# EAGLE library part AT32UC3L016/32/64 (library atmega-atxmega)
AT32UC3L016/32/64 Low power AVR32 device
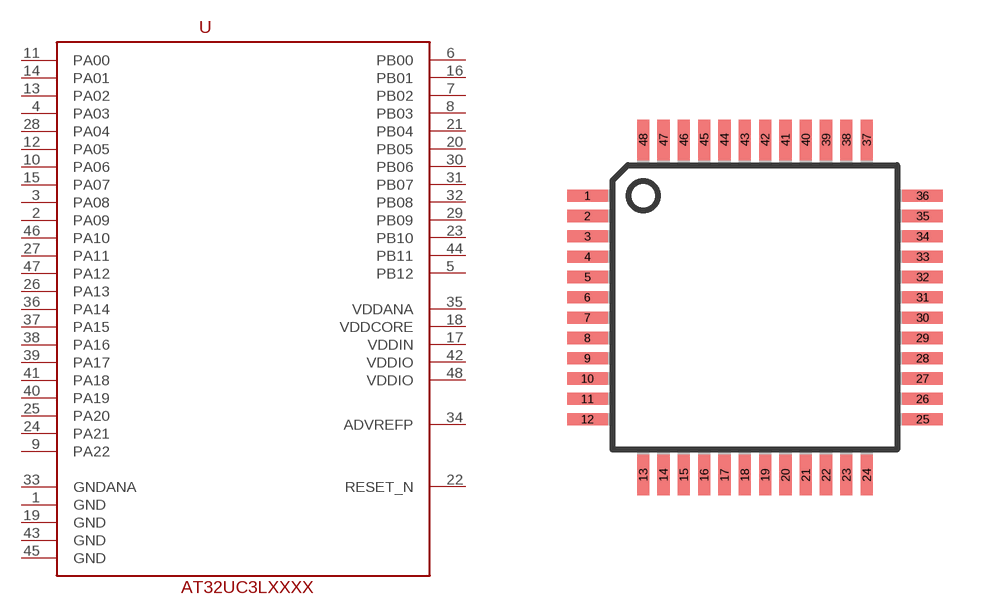
[diagram p94: symbol with the pads of TQFP48; footprint TQFP48]

Designator prefix -

## AT32UC3L016/32/64  [TQFP48]
1  GND
2  PA09
3  PA08
4  PA03
5  PB12
6  PB00
7  PB02
8  PB03
9  PA22
10  PA06
11  PA00
12  PA05
13  PA02
14  PA01
15  PA07
16  PB01
17  VDDIN
18  VDDCORE
19  GND
20  PB05
21  PB04
22  RESET_N
23  PB10
24  PA21
25  PA20
26  PA13
27  PA11
28  PA04
29  PB09
30  PB06
31  PB07
32  PB08
33  GNDANA
34  ADVREFP
35  VDDANA
36  PA14
37  PA15
38  PA16
39  PA17
40  PA19
41  PA18
42  VDDIO
43  GND
44  PB11
45  GND
46  PA10
47  PA12
48  VDDIO

## Footprint TQFP48 (pad centres in mm)
Thin Plasic Quad Flat Package
smd 1.016 x 0.305: 1 -4.191,2.794; 2 -4.191,2.286; 3 -4.191,1.778; 4 -4.191,1.27; 5 -4.191,0.762; 6 -4.191,0.254; 7 -4.191,-0.254; 8 -4.191,-0.762; 9 -4.191,-1.27; 10 -4.191,-1.778; 11 -4.191,-2.286; 12 -4.191,-2.794; 25 4.191,-2.794; 26 4.191,-2.286; 27 4.191,-1.778; 28 4.191,-1.27; 29 4.191,-0.762; 30 4.191,-0.254; 31 4.191,0.254; 32 4.191,0.762; 33 4.191,1.27; 34 4.191,1.778; 35 4.191,2.286; 36 4.191,2.794
smd 0.305 x 1.016: 13 -2.794,-4.191; 14 -2.286,-4.191; 15 -1.778,-4.191; 16 -1.27,-4.191; 17 -0.762,-4.191; 18 -0.254,-4.191; 19 0.254,-4.191; 20 0.762,-4.191; 21 1.27,-4.191; 22 1.778,-4.191; 23 2.286,-4.191; 24 2.794,-4.191; 37 2.794,4.191; 38 2.286,4.191; 39 1.778,4.191; 40 1.27,4.191; 41 0.762,4.191; 42 0.254,4.191; 43 -0.254,4.191; 44 -0.762,4.191; 45 -1.27,4.191; 46 -1.778,4.191; 47 -2.286,4.191; 48 -2.794,4.191